# Altium footprint library Wurth_Elektronik_Passive_rev16a.PCBLIB: 810 footprints (part 3 of 51)
Each footprint in its own frame and in the unit in brackets; x right, y up, seen from the top. Pads: shape width x height; smd on the part's side, far side on the other; paste and mask are expansions set on the pad; w line width, h text height; cw(c..) or ccw(c..) is an arc to the next point about the centre after c.
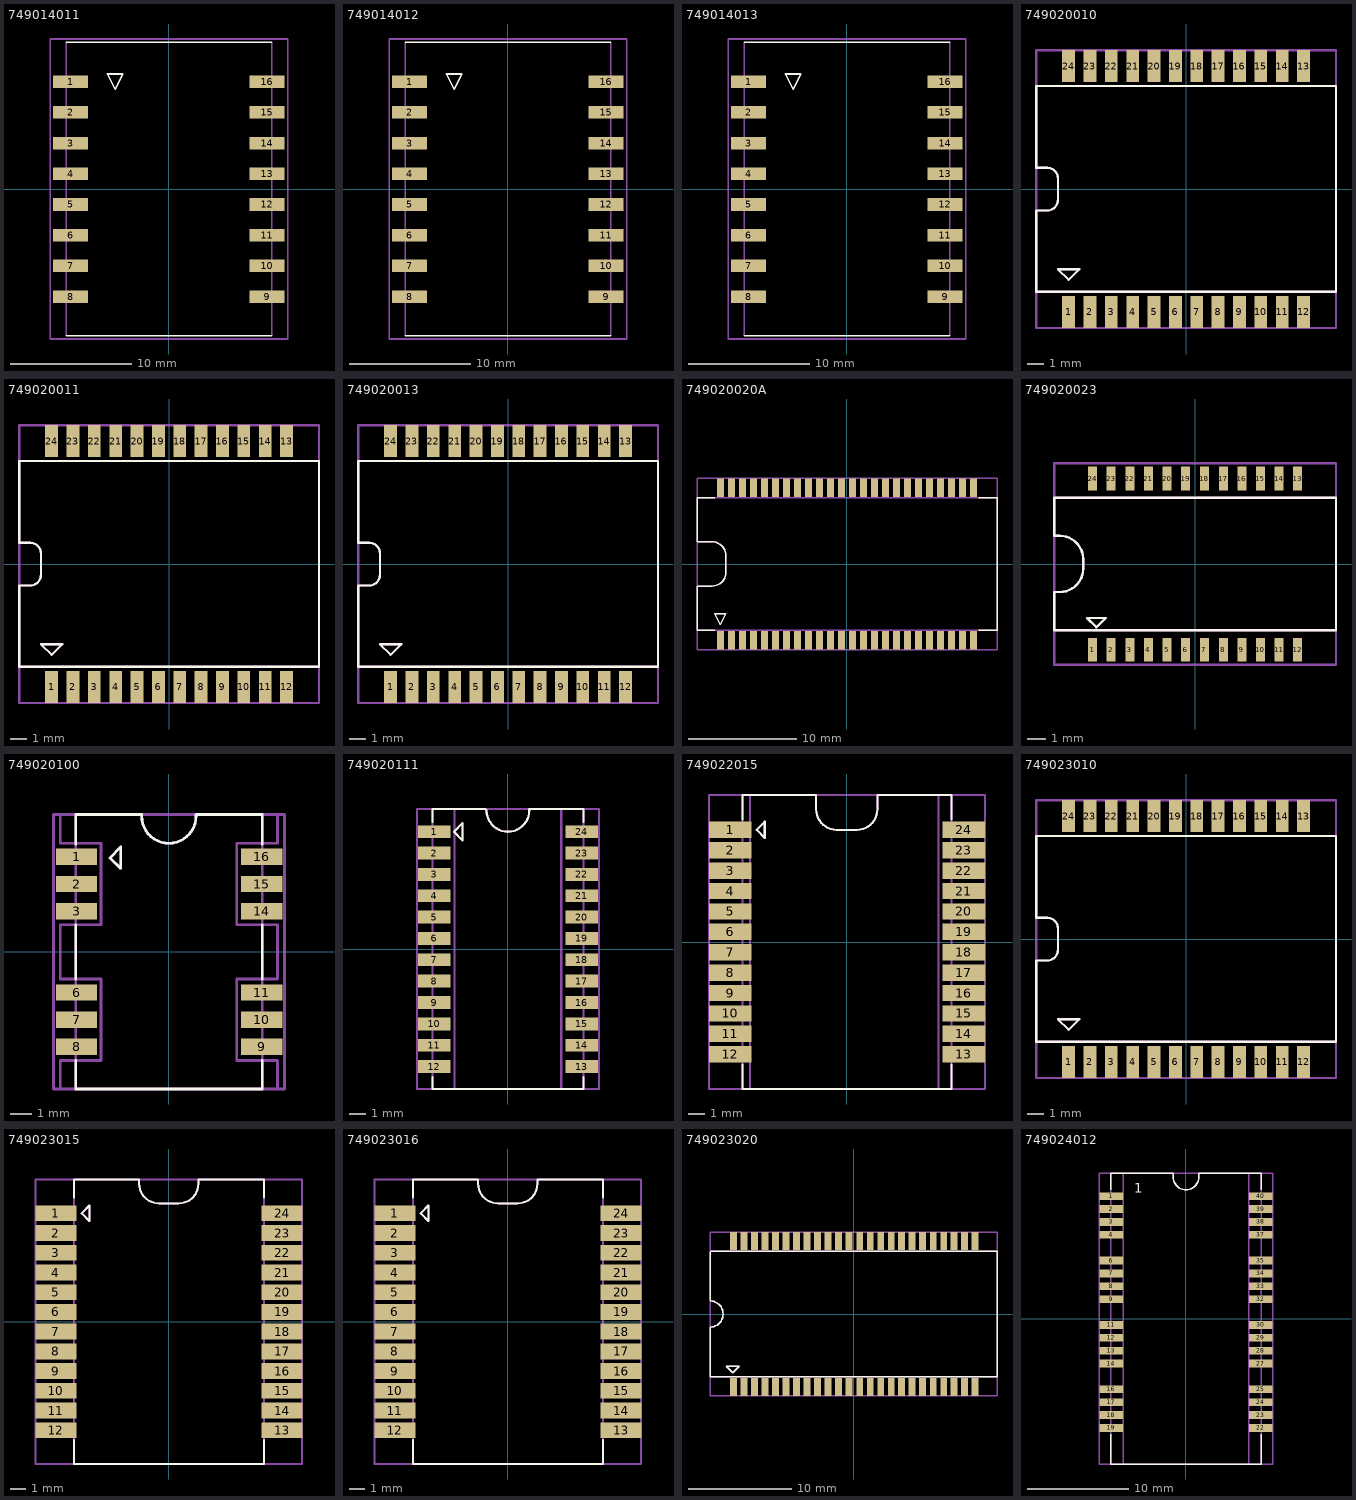
[diagram p2: the footprints below, top view; thin cyan lines are the x and y axes]

## 749014011 [mil]
pads (16):
  rect 114x41 smd: 1(-319.69,350) 2(-319.69,250) 3(-319.69,150) 4(-319.69,50) 5(-319.69,-50) 6(-319.69,-150) 7(-319.69,-250) 8(-319.69,-350) 9(320,-350) 10(320,-250) 11(320,-150) 12(320,-50) 13(320,50) 14(320,150) 15(320,250) 16(320,350)
Top Overlay:
  lines w5: -334.65,-478.35 335,-478.35 ; -334.65,479 335,479 ; -200,375 -150,375 -175,325 -200,375
Mechanical 2:
  text ">NAME" at -375,525 h77.5
Mechanical 4:
  text ">VALUE" at -350,-550 h77.5
Mechanical 16:
  lines w5: -334.65,-478.35 -334.65,479 ; 335,-478.35 335,479
Mechanical 27:
  lines w5: -386.22,-488.19 -386.22,489 387,489 387,-488.19 -386.22,-488.19

## 749014012 [mil]
pads (16):
  rect 114x41 smd: 1(-319.69,350) 2(-319.69,250) 3(-319.69,150) 4(-319.69,50) 5(-319.69,-50) 6(-319.69,-150) 7(-319.69,-250) 8(-319.69,-350) 9(320,-350) 10(320,-250) 11(320,-150) 12(320,-50) 13(320,50) 14(320,150) 15(320,250) 16(320,350)
Top Overlay:
  lines w5: -334.65,-478.35 335,-478.35 ; -334.65,479 335,479 ; -200,375 -150,375 -175,325 -200,375
Mechanical 2:
  text ">NAME" at -375,525 h77.5
Mechanical 4:
  text ">VALUE" at -350,-550 h77.5
Mechanical 16:
  lines w5: -334.65,-478.35 -334.65,479 ; 335,-478.35 335,479
Mechanical 27:
  lines w5: -386.22,-488.19 -386.22,489 387,489 387,-488.19 -386.22,-488.19

## 749014013 [mil]
pads (16):
  rect 114x41 smd: 1(-319.69,350) 2(-319.69,250) 3(-319.69,150) 4(-319.69,50) 5(-319.69,-50) 6(-319.69,-150) 7(-319.69,-250) 8(-319.69,-350) 9(320,-350) 10(320,-250) 11(320,-150) 12(320,-50) 13(320,50) 14(320,150) 15(320,250) 16(320,350)
Top Overlay:
  lines w5: -334.65,-478.35 335,-478.35 ; -334.65,479 335,479 ; -200,375 -150,375 -175,325 -200,375
Mechanical 2:
  text ">NAME" at -375,525 h77.5
Mechanical 4:
  text ">VALUE" at -350,-550 h77.5
Mechanical 16:
  lines w5: -334.65,-478.35 -334.65,479 ; 335,-478.35 335,479
Mechanical 27:
  lines w5: -386.22,-488.19 -386.22,489 387,489 387,-488.19 -386.22,-488.19

## 749020010 [mil]
pads (24):
  rrect4% 30x75 smd: 1(-275,-287.5)
  rect 30x75 smd: 2(-225,-287.5) 3(-175,-287.5) 4(-125,-287.5) 5(-75,-287.5) 6(-25,-287.5) 7(25,-287.5) 8(75,-287.5) 9(125,-287.5) 10(175,-287.5) 11(225,-287.5) 12(275,-287.5) 13(275,288) 14(225,288) 15(175,288) 16(125,288) 17(75,288) 18(25,288) 19(-25,288) 20(-75,288) 21(-125,288) 22(-175,288) 23(-225,288) 24(-275,288)
Top Overlay:
  lines w5: -350.59,-240.16 351,-240.16 351,241 -350.59,241 -350.59,50 -325,50 cw(c-325,25) -300,25 -300,-25 cw(c-325,-25) -325,-50 -350.59,-50 -350.59,-239.57 cw(c-350.89,-239.86) -350.59,-240.16 ; -300,-187.5 -275,-212.5 -250,-187.5 -300,-187.5
Mechanical 2:
  text ">NAME" at -366.54,-118.11 h77.5
Mechanical 4:
  text ">VALUE" at 426,-137.8 h77.5
Mechanical 10:
  lines w5: -350.59,-240.16 351,-240.16 351,241 -350.59,241 -350.59,-240.16
Mechanical 16:
  lines w5: -350.59,-240.16 -350.59,-50 -325,-50 ccw(c-325,-25) -300,-25 -300,25 ccw(c-325,25) -325,50 -350.59,50 -350.59,241 351,241 351,-240.16 -350.59,-240.16 ; -300,-187.5 -250,-187.5 -275,-212.5 -300,-187.5
Mechanical 27:
  lines w5: -350.59,-325 351,-325 351,325 -350.59,325 -350.59,-325

## 749020011 [mil]
pads (24):
  rrect4% 30x75 smd: 1(-275,-287.5)
  rect 30x75 smd: 2(-225,-287.5) 3(-175,-287.5) 4(-125,-287.5) 5(-75,-287.5) 6(-25,-287.5) 7(25,-287.5) 8(75,-287.5) 9(125,-287.5) 10(175,-287.5) 11(225,-287.5) 12(275,-287.5) 13(275,288) 14(225,288) 15(175,288) 16(125,288) 17(75,288) 18(25,288) 19(-25,288) 20(-75,288) 21(-125,288) 22(-175,288) 23(-225,288) 24(-275,288)
Top Overlay:
  lines w5: -350.59,-240.16 351,-240.16 351,241 -350.59,241 -350.59,50 -325,50 cw(c-325,25) -300,25 -300,-25 cw(c-325,-25) -325,-50 -350.59,-50 -350.59,-239.57 cw(c-350.89,-239.86) -350.59,-240.16 ; -300,-187.5 -275,-212.5 -250,-187.5 -300,-187.5
Mechanical 2:
  text ">NAME" at -366.54,-118.11 h77.5
Mechanical 4:
  text ">VALUE" at 426,-137.8 h77.5
Mechanical 10:
  lines w5: -350.59,-240.16 351,-240.16 351,241 -350.59,241 -350.59,-240.16
Mechanical 16:
  lines w5: -350.59,-240.16 -350.59,-50 -325,-50 ccw(c-325,-25) -300,-25 -300,25 ccw(c-325,25) -325,50 -350.59,50 -350.59,241 351,241 351,-240.16 -350.59,-240.16 ; -300,-187.5 -250,-187.5 -275,-212.5 -300,-187.5
Mechanical 27:
  lines w5: -350.59,-325 -350.59,325 351,325 351,-325 -350.59,-325

## 749020013 [mil]
pads (24):
  rrect4% 30x75 smd: 1(-275,-287.5)
  rect 30x75 smd: 2(-225,-287.5) 3(-175,-287.5) 4(-125,-287.5) 5(-75,-287.5) 6(-25,-287.5) 7(25,-287.5) 8(75,-287.5) 9(125,-287.5) 10(175,-287.5) 11(225,-287.5) 12(275,-287.5) 13(275,288) 14(225,288) 15(175,288) 16(125,288) 17(75,288) 18(25,288) 19(-25,288) 20(-75,288) 21(-125,288) 22(-175,288) 23(-225,288) 24(-275,288)
Top Overlay:
  lines w5: -350.59,-240.16 351,-240.16 351,241 -350.59,241 -350.59,50 -325,50 cw(c-325,25) -300,25 -300,-25 cw(c-325,-25) -325,-50 -350.59,-50 -350.59,-239.57 cw(c-350.89,-239.86) -350.59,-240.16 ; -300,-187.5 -275,-212.5 -250,-187.5 -300,-187.5
Mechanical 2:
  text ">NAME" at -366.54,-118.11 h77.5
Mechanical 4:
  text ">VALUE" at 426,-137.8 h77.5
Mechanical 10:
  lines w5: -350.59,-240.16 351,-240.16 351,241 -350.59,241 -350.59,-240.16
Mechanical 16:
  lines w5: -350.59,-240.16 -350.59,-50 -325,-50 ccw(c-325,-25) -300,-25 -300,25 ccw(c-325,25) -325,50 -350.59,50 -350.59,241 351,241 351,-240.16 -350.59,-240.16 ; -300,-187.5 -250,-187.5 -275,-212.5 -300,-187.5
Mechanical 27:
  lines w5: -350.59,-325 -350.59,325 351,325 351,-325 -350.59,-325

## 749020020A [mil]
pads (48):
  rect 26x68 smd: 1(-461.81,-278.84) 2(-421.65,-278.84) 3(-381.5,-278.84) 4(-341.34,-278.84) 5(-301.18,-278.84) 6(-261.02,-278.84) 7(-220.87,-278.84) 8(-180.71,-278.84) 9(-140.55,-278.84) 10(-100.39,-278.84) 11(-60.24,-278.84) 12(-20.08,-278.84) 13(21,-278.84) 14(61,-278.84) 15(101,-278.84) 16(141,-278.84) 17(181,-278.84) 18(221,-278.84) 19(262,-278.84) 20(302,-278.84) 21(342,-278.84) 22(382,-278.84) 23(422,-278.84) 24(462,-278.84) 25(462,279) 26(422,279) 27(382,279) 28(342,279) 29(302,279) 30(262,279) 31(221,279) 32(181,279) 33(141,279) 34(101,279) 35(61,279) 36(21,279) 37(-20.08,279) 38(-60.24,279) 39(-100.39,279) 40(-140.55,279) 41(-180.71,279) 42(-220.87,279) 43(-261.02,279) 44(-301.18,279) 45(-341.34,279) 46(-381.5,279) 47(-421.65,279) 48(-461.81,279)
Top Overlay:
  lines w5: -481.89,-241.14 -547.44,-241.14 -547.44,-80.31 -491.73,-80.31 ccw(c-491.73,-30.32) -441.73,-30.32 ; -481.89,242 -547.44,242 -547.44,81 -491.73,81 cw(c-491.73,31) -441.73,31 ; -441.73,-40.16 -441.73,41 ; 482,-241.14 548,-241.14 548,242 482,242 ; -483.27,-181 -443.11,-181 -463.19,-221.16 -483.27,-181
Mechanical 2:
  text ">NAME" at -561.81,-120.47 h77.5
Mechanical 4:
  text ">VALUE" at 603,-120.47 h77.5
Mechanical 10:
  lines w5: -547.44,-241.14 548,-241.14 548,242 -547.44,242 -547.44,-241.14
Mechanical 16:
  lines w5: 481,-241.14 -547.44,-241.14 -547.44,-80.31 -491.73,-80.31 ccw(c-491.73,-30.32) -441.73,-30.32 -441.73,31 ccw(c-491.73,31) -491.73,81 -547.44,81 -547.44,242 548,242 548,-241.14 482,-241.14 ; -483.27,-181 -443.11,-181 -463.19,-221.16 -483.27,-181
Mechanical 27:
  lines w5: -547.44,-312.5 548,-312.5 548,313 -547.44,313 -547.44,-312.5

## 749020023 [mil]
pads (24):
  rrect4% 19x50 smd: 1(-216.54,-180.91)
  rect 19x50 smd: 2(-177.17,-180.91) 3(-137.8,-180.91) 4(-98.43,-180.91) 5(-59.06,-180.91) 6(-19.68,-180.91) 7(20,-180.91) 8(60,-180.91) 9(99,-180.91) 10(138,-180.91) 11(178,-180.91) 12(217,-180.91) 13(217,181) 14(178,181) 15(138,181) 16(99,181) 17(60,181) 18(20,181) 19(-19.68,181) 20(-59.06,181) 21(-98.43,181) 22(-137.8,181) 23(-177.17,181) 24(-216.54,181)
Top Overlay:
  lines w5: -297.44,-139.76 298,-139.76 298,140 -297.44,140 -297.44,60 -286.22,60 cw(c-286.22,10) -236.22,10 -236.22,-9.06 cw(c-286.22,-9.06) -286.22,-59.06 -297.44,-59.06 -297.44,-139.76 ; -228.15,-113.78 -188.78,-113.78 -208.46,-133.46 -228.15,-113.78
Mechanical 2:
  text ">NAME" at -314.96,-118.11 h77.5
Mechanical 4:
  text ">VALUE" at 355,-118.11 h77.5
Mechanical 10:
  lines w5: -297.44,-139.76 298,-139.76 298,140 -297.44,140 -297.44,-139.76
Mechanical 16:
  lines w5: -297.44,-139.76 298,-139.76 298,140 -297.44,140 -297.44,60 -286.22,60 cw(c-286.22,10) -236.22,10 -236.22,-9.06 cw(c-286.22,-9.06) -286.22,-59.06 -297.44,-59.06 -297.44,-139.76 ; -228.15,-113.78 -208.46,-133.46 -188.78,-113.78 -228.15,-113.78
Mechanical 27:
  lines w5: -297.44,-212.5 298,-212.5 298,213 -297.44,213 -297.44,-212.5

## 749020100 [mil]
pads (12):
  rect 76x30 smd: 1(-170.08,175) 2(-170.08,125) 3(-170.08,75) 6(-170.08,-75) 7(-170.08,-125) 8(-170.08,-175) 9(171,-175) 10(171,-125) 11(171,-75) 14(171,75) 15(171,125) 16(171,175)
Top Overlay:
  lines w5: -171.26,-200 -171.26,-252.56 172,-252.56 172,-200 ; -171.26,-50 -171.26,50 ; -171.26,198 -171.26,253 -50,253 -50,250 ccw(c0,250) 0,200 ccw(c0,250) 50,250 50,253 172,253 172,198 ; 172,-50 172,50 ; -108.46,173 -88.78,154 -88.78,193 -108.46,173
Mechanical 2:
  text ">NAME" at -118.11,276 h77.5
Mechanical 4:
  text ">VALUE" at -118.11,-304.33 h77.5
Mechanical 10:
  lines w5: -200,-252.56 200,-252.56 200,-200 125,-200 125,-50 200,-50 200,50 125,50 125,200 200,200 200,253 -200,253 -200,200 -125,200 -125,50 -200,50 -200,-50 -125,-50 -125,-200 -200,-200 -200,-252.56
Mechanical 16:
  lines w5: -171.26,-252.56 172,-252.56 172,253 50,253 50,250 cw(c0,250) 0,200 cw(c0,250) -50,250 -50,253 -171.26,253 -171.26,-252.56 ; -108.46,173 -88.78,193 -88.78,154 -108.46,173
Mechanical 27:
  lines w5: -212.5,-252.56 213,-252.56 213,253 -212.5,253 -212.5,-252.56

## 749020111 [mil]
pads (24):
  rect 76x30 smd: 1(-172.44,275) 2(-172.44,225) 3(-172.44,175) 4(-172.44,125) 5(-172.44,75) 6(-172.44,25) 7(-172.44,-25) 8(-172.44,-75) 9(-172.44,-125) 10(-172.44,-175) 11(-172.44,-225) 12(-172.44,-275) 13(173,-275) 14(173,-225) 15(173,-175) 16(173,-125) 17(173,-75) 18(173,-25) 19(173,25) 20(173,75) 21(173,125) 22(173,175) 23(173,225) 24(173,275)
Top Overlay:
  lines w5: -176.97,-300 -176.97,-327.56 177,-327.56 177,-300 ; -176.97,298 -176.97,328 -52.56,328 -50,325 ccw(c0,325) 0,275 ccw(c0,325) 50,325 50,328 177,328 177,298 ; -126.28,275 -106.59,295 -106.59,255 -126.28,275
Mechanical 2:
  text ">NAME" at -125.59,347 h77.5
Mechanical 4:
  text ">VALUE" at -125.59,-391.24 h77.5
Mechanical 10:
  lines w5: -125,-327.56 125,-327.56 125,328 -125,328 -125,-327.56
Mechanical 16:
  lines w5: -176.97,-327.56 -176.97,328 -52.56,328 -50,325 ccw(c0,325) 0,275 ccw(c0,325) 50,325 50,328 177,328 177,-327.56 -176.97,-327.56 ; -126.28,275 -106.59,255 -106.59,295 -126.28,275
Mechanical 27:
  lines w5: -212.5,-327.56 213,-327.56 213,328 -212.5,328 -212.5,-327.56

## 749022015 [mil]
pads (24):
  rect 104x40 smd: 1(-286.02,275) 2(-286.02,225) 3(-286.02,175) 4(-286.02,125) 5(-286.02,75) 6(-286.02,25) 7(-286.02,-24.8) 8(-286.02,-74.8) 9(-286.02,-124.8) 10(-286.02,-174.8) 11(-286.02,-224.8) 12(-286.02,-274.8) 13(287,-274.8) 14(287,-224.8) 15(287,-174.8) 16(287,-124.8) 17(287,-74.8) 18(287,-24.8) 19(287,25) 20(287,75) 21(287,125) 22(287,175) 23(287,225) 24(287,275)
Top Overlay:
  lines w5: -255.51,-300 -255.51,-359.84 256,-359.84 256,-300 ; -255.51,300 -255.51,360 -75,360 -75,325 ccw(c-25,325) -25,275 25,275 ccw(c25,325) 75,325 75,360 256,360 256,300 ; -220.67,275 -200.98,295 -200.98,255 -220.67,275
Mechanical 2:
  text ">NAME" at -132.09,387 h77.5
Mechanical 4:
  text ">VALUE" at -114.96,-432.48 h77.5
Mechanical 10:
  lines w5: -237.5,-359.84 225,-359.84 225,360 -237.5,360 -237.5,-359.84
Mechanical 16:
  lines w5: -255.51,-359.84 -255.51,360 -75,360 -75,325 ccw(c-25,325) -25,275 25,275 ccw(c25,325) 75,325 75,360 256,360 256,-359.84 -255.51,-359.84 ; -220.67,275 -200.98,295 -200.98,255 -220.67,275
Mechanical 27:
  lines w5: -337.5,-359.84 338,-359.84 338,360 -337.5,360 -337.5,-359.84

## 749023010 [mil]
pads (24):
  rrect4% 30x75 smd: 1(-275,-287.5)
  rect 30x75 smd: 2(-225,-287.5) 3(-175,-287.5) 4(-125,-287.5) 5(-75,-287.5) 6(-25,-287.5) 7(25,-287.5) 8(75,-287.5) 9(125,-287.5) 10(175,-287.5) 11(225,-287.5) 12(275,-287.5) 13(275,288) 14(225,288) 15(175,288) 16(125,288) 17(75,288) 18(25,288) 19(-25,288) 20(-75,288) 21(-125,288) 22(-175,288) 23(-225,288) 24(-275,288)
Top Overlay:
  lines w5: -350.59,-240.16 351,-240.16 351,241 -350.59,241 -350.59,50 -325,50 cw(c-325,25) -300,25 -300,-25 cw(c-325,-25) -325,-50 -350.59,-50 -350.59,-239.57 cw(c-350.89,-239.86) -350.59,-240.16 ; -300,-187.5 -275,-212.5 -250,-187.5 -300,-187.5
Mechanical 2:
  text ">NAME" at -366.54,-118.11 h77.5
Mechanical 4:
  text ">VALUE" at 426,-137.8 h77.5
Mechanical 10:
  lines w5: -350.59,-240.16 351,-240.16 351,241 -350.59,241 -350.59,-240.16
Mechanical 16:
  lines w5: -350.59,-240.16 -350.59,-50 -325,-50 ccw(c-325,-25) -300,-25 -300,25 ccw(c-325,25) -325,50 -350.59,50 -350.59,241 351,241 351,-240.16 -350.59,-240.16 ; -300,-187.5 -250,-187.5 -275,-212.5 -300,-187.5
Mechanical 27:
  lines w5: -350.59,-325 -350.59,325 351,325 351,-325 -350.59,-325

## 749023015 [mil]
pads (24):
  rect 104x40 smd: 1(-286.02,275) 2(-286.02,225) 3(-286.02,175) 4(-286.02,125) 5(-286.02,75) 6(-286.02,25) 7(-286.02,-24.8) 8(-286.02,-74.8) 9(-286.02,-124.8) 10(-286.02,-174.8) 11(-286.02,-224.8) 12(-286.02,-274.8) 13(287,-274.8) 14(287,-224.8) 15(287,-174.8) 16(287,-124.8) 17(287,-74.8) 18(287,-24.8) 19(287,25) 20(287,75) 21(287,125) 22(287,175) 23(287,225) 24(287,275)
Top Overlay:
  lines w5: -240.16,-300 -240.16,-360.24 241,-360.24 241,-300 ; -240.16,315 -240.16,361 -75,361 -75,350 ccw(c-25,350) -25,300 25,300 ccw(c25,350) 75,350 75,361 241,361 241,315 ; -220.67,275 -200.98,295 -200.98,255 -220.67,275
Mechanical 2:
  text ">NAME" at -107.09,387 h77.5
Mechanical 4:
  text ">VALUE" at -139.96,-432.48 h77.5
Mechanical 10:
  lines w5: -240.16,-360.24 241,-360.24 241,361 -240.16,361 -240.16,-360.24
Mechanical 16:
  lines w5: -240.16,-360.24 -240.16,361 -75,361 -75,350 ccw(c-25,350) -25,300 25,300 ccw(c25,350) 75,350 75,361 241,361 241,-360.24 -240.16,-360.24 ; -220.67,275 -200.98,295 -200.98,255 -220.67,275
Mechanical 27:
  lines w5: -337.5,-360.24 338,-360.24 338,361 -337.5,361 -337.5,-360.24

## 749023016 [mil]
pads (24):
  rect 104x40 smd: 1(-286.02,275) 2(-286.02,225) 3(-286.02,175) 4(-286.02,125) 5(-286.02,75) 6(-286.02,25) 7(-286.02,-24.8) 8(-286.02,-74.8) 9(-286.02,-124.8) 10(-286.02,-174.8) 11(-286.02,-224.8) 12(-286.02,-274.8) 13(287,-274.8) 14(287,-224.8) 15(287,-174.8) 16(287,-124.8) 17(287,-74.8) 18(287,-24.8) 19(287,25) 20(287,75) 21(287,125) 22(287,175) 23(287,225) 24(287,275)
Top Overlay:
  lines w5: -240.16,-300 -240.16,-360.24 241,-360.24 241,-300 ; -240.16,315 -240.16,361 -75,361 -75,350 ccw(c-25,350) -25,300 25,300 ccw(c25,350) 75,350 75,361 241,361 241,315 ; -220.67,275 -200.98,295 -200.98,255 -220.67,275
Mechanical 2:
  text ">NAME" at -107.09,387 h77.5
Mechanical 4:
  text ">VALUE" at -139.96,-432.48 h77.5
Mechanical 10:
  lines w5: -240.16,-360.24 241,-360.24 241,361 -240.16,361 -240.16,-360.24
Mechanical 16:
  lines w5: -240.16,-360.24 -240.16,361 -75,361 -75,350 ccw(c-25,350) -25,300 25,300 ccw(c25,350) 75,350 75,361 241,361 241,-360.24 -240.16,-360.24 ; -220.67,275 -200.98,295 -200.98,255 -220.67,275
Mechanical 27:
  lines w5: -337.5,-360.24 338,-360.24 338,361 -337.5,361 -337.5,-360.24

## 749023020 [mil]
pads (48):
  rect 26x68 smd: 1(-459.84,-278.74) 2(-419.69,-278.74) 3(-379.53,-278.74) 4(-339.37,-278.74) 5(-299.21,-278.74) 6(-259.06,-278.74) 7(-218.9,-278.74) 8(-178.74,-278.74) 9(-138.58,-278.74) 10(-98.43,-278.74) 11(-58.27,-278.74) 12(-18.11,-278.74) 13(23,-278.74) 14(63,-278.74) 15(103,-278.74) 16(143,-278.74) 17(183,-278.74) 18(223,-278.74) 19(263,-278.74) 20(304,-278.74) 21(344,-278.74) 22(384,-278.74) 23(424,-278.74) 24(464,-278.74) 25(464,279) 26(424,279) 27(384,279) 28(344,279) 29(304,279) 30(263,279) 31(223,279) 32(183,279) 33(143,279) 34(103,279) 35(63,279) 36(23,279) 37(-18.11,279) 38(-58.27,279) 39(-98.43,279) 40(-138.58,279) 41(-178.74,279) 42(-218.9,279) 43(-259.06,279) 44(-299.21,279) 45(-339.37,279) 46(-379.53,279) 47(-419.69,279) 48(-459.84,279)
Top Overlay:
  lines w5: -550,238 -550,50 cw(c-550,0) -500,0 cw(c-550,0) -550,-50 -550,-239.96 548,-239.96 548,240 -547.44,240 ; -487.5,-200 -462.5,-225 -437.5,-200 -487.5,-200
Mechanical 2:
  text ">NAME" at -600,-150 h77.5
Mechanical 4:
  text ">VALUE" at 611,-107.48 h77.5
Mechanical 10:
  lines w5: -550,-239.96 548,-239.96 548,240 -550,240 -550,-239.96
Mechanical 16:
  lines w5: -550,238 -550,50 cw(c-550,0) -500,0 cw(c-550,0) -550,-50 -550,-239.96 548,-239.96 548,240 -550,240 ; -487.5,-200 -437.5,-200 -462.5,-225 -487.5,-200
Mechanical 27:
  lines w5: -550,-312.5 548,-312.5 548,313 -550,313 -550,-312.5

## 749024012 [mil]
pads (32):
  rect 91x30 smd: 1(-289.96,475) 2(-289.96,425) 3(-289.96,375) 4(-289.96,325) 6(-289.96,225) 7(-289.96,175) 8(-289.96,125) 9(-289.96,75) 11(-289.96,-25) 12(-289.96,-75) 13(-289.96,-125) 14(-289.96,-175) 16(-289.96,-275) 17(-289.96,-325) 18(-289.96,-375) 19(-289.96,-425) 22(290,-425) 23(290,-375) 24(290,-325) 25(290,-275) 27(290,-175) 28(290,-125) 29(290,-75) 30(290,-25) 32(290,75) 33(290,125) 34(290,175) 35(290,225) 37(290,325) 38(290,375) 39(290,425) 40(290,475)
Top Overlay:
  lines w5: -292.52,-450 -292.52,-564.96 293,-564.96 293,-450 ; -292.52,500 -292.52,565 -50,565 -50,550 ccw(c0,550) 0,500 ccw(c0,550) 50,550 50,565 293,565 293,500
  text "1" at -200,475 h62
Mechanical 2:
  text ">NAME" at -137.8,-649.61 h77.5
Mechanical 4:
  text ">VALUE" at -118.11,591 h77.5
Mechanical 10:
  lines w5: -242.52,-564.96 243,-564.96 243,565 -242.52,565 -242.52,-564.96
Mechanical 16:
  lines w5: -292.52,-564.96 -292.52,565 -50,565 -50,550 ccw(c0,550) 0,500 ccw(c0,550) 50,550 50,565 293,565 293,-564.96 -292.52,-564.96
  text "1" at -200,475 h62
Mechanical 27:
  lines w5: -337.5,-564.96 -337.5,565 338,565 338,-564.96 -337.5,-564.96